# Altium schematic symbol library USB-B.SchLib: 1 symbol
Pins are listed as number, name and electrical type; pins without a type are passive.

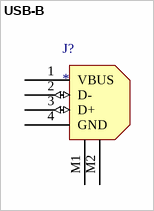
[diagram p0: symbol USB-B]

## USB-B
designator J?
pins: 1 VBUS (power), 2 D- (io), 3 D+ (io), 4 GND (power), M1, M2